# EAGLE library part LM2936BM (library v-reg)
voltage regulator w shutdown
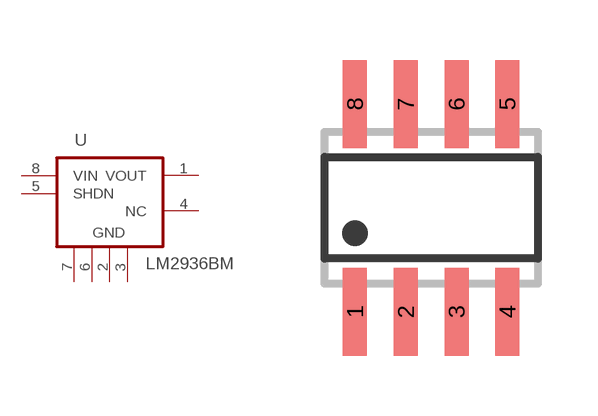
[diagram p5: symbol with the pads of SO08; footprint SO08]

Designator prefix U

## LM2936BM  [SO08]
1  VOUT  pwr
2  GND  pwr
3  GND  pwr
4  NC  nc
5  SHDN
6  GND  pwr
7  GND  pwr
8  VIN  pwr

## Footprint SO08 (pad centres in mm)
SMALL OUTLINE INTEGRATED CIRCUIT body 3.9 mm/JEDEC MS-012AA
smd 0.6 x 2.2: 1 -1.905,-2.6; 2 -0.635,-2.6; 3 0.635,-2.6; 4 1.905,-2.6; 5 1.905,2.6; 6 0.635,2.6; 7 -0.635,2.6; 8 -1.905,2.6